# Altium schematic symbol library RF_RFID.SchLib: 2 symbols
Pins are listed as number, name and electrical type; pins without a type are passive.

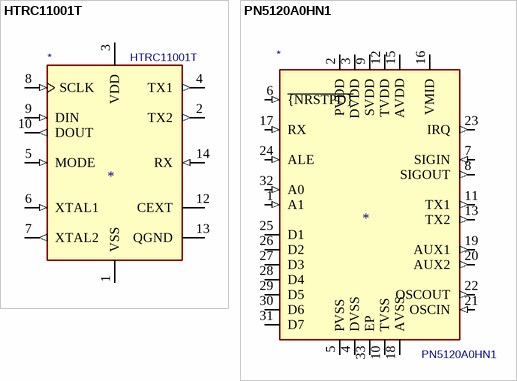
[diagram p0: symbols HTRC11001T to PN5120A0HN1]

## HTRC11001T
designator *  value HTRC11001T
ki_keywords: HITAG RFID; ki_description: HITAG RF Reader Device, SOIC-14; ki_fp_filters: SOIC*3.9x8.7mm*P1.27mm*; Footprint: Package_SO:SOIC-14_3.9x8.7mm_P1.27mm; Supplier: https://www.nxp.com/docs/en/data-sheet/037031.pdf
footprint SOIC-14_3.9x8.7mm_P1.27mm
pins: 1 VSS (power), 2 TX2 (out), 3 VDD (power), 4 TX1 (out), 5 MODE (in), 6 XTAL1 (in), 7 XTAL2 (out), 8 SCLK (in), 9 DIN (in), 10 DOUT (out), 12 CEXT, 13 QGND, 14 RX (in)

## PN5120A0HN1
designator *  value PN5120A0HN1
ki_keywords: PN512 RFID; ki_description: NFC frontend.  ISO/IEC 14443A&B, MIFARE®, FeliCa and NFC Forum tag types, HVQFN-32; ki_fp_filters: HVQFN*1EP*5x5mm*P0.5mm*; Footprint: Package_DFN_QFN:HVQFN-32-1EP_5x5mm_P0.5mm_EP3.1x3.1mm; Supplier: https://www.nxp.com/docs/en/data-sheet/PN512.pdf
footprint HVQFN-32-1EP_5x5mm_P0.5mm_EP3.1x3.1mm
pins: 1 A1 (in), 2 PVDD (power), 3 DVDD (power), 4 DVSS (power), 5 PVSS (power), 6 ~{{NRSTPD}} (in), 7 SIGIN (in), 8 SIGOUT (out), 9 SVDD (power), 10 TVSS (power), 11 TX1 (out), 12 TVDD (power), 13 TX2 (out), 14 TVSS hidden, 15 AVDD (power), 16 VMID (power), 17 RX (in), 18 AVSS (power), 19 AUX1 (out), 20 AUX2 (out), 21 OSCIN (in), 22 OSCOUT (out), 23 IRQ (out), 24 ALE (in), 25 D1 (io), 26 D2 (io), 27 D3 (io), 28 D4 (io), 29 D5 (io), 30 D6 (io), 31 D7 (io), 32 A0 (in), 33 EP